# Altium footprint library LITHIUM3VCELL.PCBLIB: 1 footprints
Each footprint in its own frame and in the unit in brackets; x right, y up, seen from the top. Pads: shape width x height; smd on the part's side, far side on the other; paste and mask are expansions set on the pad; w line width, h text height; cw(c..) or ccw(c..) is an arc to the next point about the centre after c.
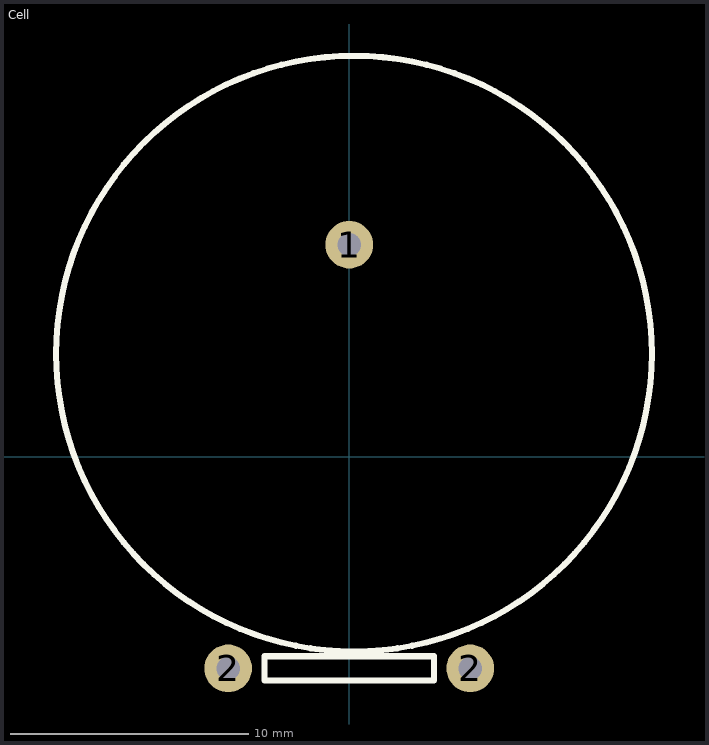
[diagram p0: the footprint, top view; thin cyan lines are the x and y axes]

## Cell [mm] "Cell outline. Note: can easily fit components underneath"
height 5
pads (3):
  round 2 hole 1: 1(0,8.89) 2(-5.08,-8.89) 2(5.08,-8.89)
Top Overlay:
  circle w0.254: c0.2,4.318 r12.5
  lines w0.254: -3.556,-9.398 3.556,-9.398 3.556,-8.382 -3.556,-8.382 -3.556,-9.398